# Altium schematic symbol library SCH - POWER - MODULE - IM828XCC.SCHLIB: 1 symbol
Pins are listed as number, name and electrical type; pins without a type are passive.

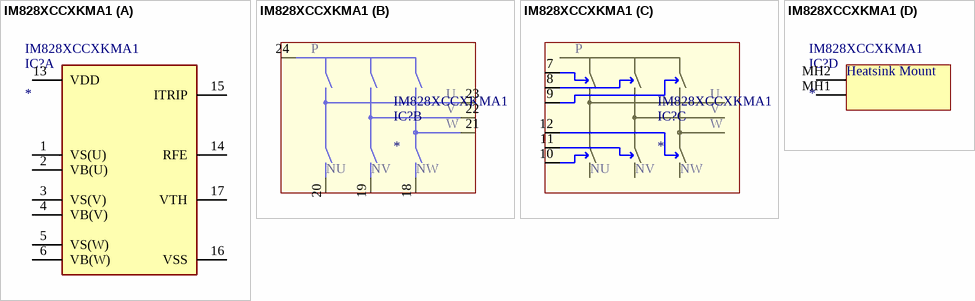
[diagram p0: symbol IM828XCCXKMA1]

## IM828XCCXKMA1
designator IC?  Supplier Part Number 1: IM828XCCXKMA1
CIPOS™ Maxi 1200 V, 20 A three-phase CoolSiC™ MOSFET based intelligent power module with open emitter in DIP 36x23D package providing fully-featured compact inverter solution with excellent thermal conduction for industrial applications including industrial drives, HVAC, active filters, motor controls and etc.; Manufacturer_Name: Infineon; Datasheet Link: https://www.infineon.com/dgdl/Infineon-IM828-XCC-DataSheet-v02_00-EN.pdf?fileId=5546d4627448fb2b0174583d4d6d430c; Height: 5.6mm; Manufacturer_Part_Number: IM828XCCXKMA1; Mouser Part Number: 726-IM828XCCXKMA1; Mouser Price/Stock: https://www.mouser.co.uk/ProductDetail/Infineon-Technologies/IM828XCCXKMA1?qs=hWgE7mdIu5TmWfF0vabtqA%3D%3D; Supplier 1: Avnet
part A pins: 1 VS(U), 2 VB(U), 3 VS(V), 4 VB(V), 5 VS(W), 6 VB(W), 13 VDD, 14 RFE, 15 ITRIP, 16 VSS, 17 VTH
part B pins: 18 NW, 19 NV, 20 NU, 21 W, 22 V, 23 U, 24 P
part C pins: 7 HIN(U), 8 HIN(V), 9 HIN(W), 10 LIN(U), 11 LIN(V), 12 LIN(W)
part D pins: MH1 HeatsinkScrew, MH2 HeatsinkScrew2
part D text: Heatsink Mount